# Altium footprint library Connector.PcbLib: 18 footprints (part 2 of 2)
Each footprint in its own frame and in the unit in brackets; x right, y up, seen from the top. Pads: shape width x height; smd on the part's side, far side on the other; paste and mask are expansions set on the pad; w line width, h text height; cw(c..) or ccw(c..) is an arc to the next point about the centre after c.
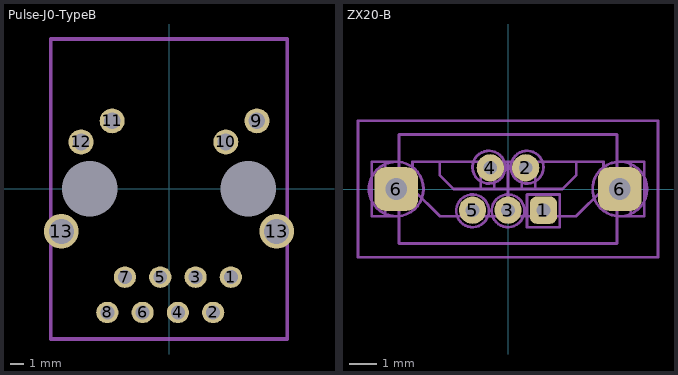
[diagram p1: the footprints below, top view; thin cyan lines are the x and y axes]

## Pulse-J0-TypeB [mm]
pads (16):
  oval 1.6x1.524 hole 1: 1(4.45,-6.35) 2(3.18,-8.89) 3(1.91,-6.35) 4(0.64,-8.89) 5(-0.63,-6.35) 6(-1.9,-8.89) 7(-3.17,-6.35) 8(-4.44,-8.89)
  round 1.8 hole 1.2: 9(6.325,4.9) 10(4.09,3.38) 11(-4.09,4.9) 12(-6.325,3.38)
  round 2.5 hole 1.8: 13(-7.75,-3.05) 13(7.75,-3.05)
  round 0 hole 4 unplated: 14(-5.71,0) 14(5.71,0)
Mechanical 13:
  lines w0.254: -8.51,-10.8 -8.51,10.79 8.51,10.79 8.51,-10.8 -8.51,-10.8
3D body: height 13.57, standoff -3.94, extent -8.271,-10.397 8.329,10.95

## ZX20-B [mm] "Micro-USB B Plug Vertical PCB"
pads (7):
  rrect50% 1x1 hole 0.5: 1(1.3,-0.775)
  round 1 hole 0.5: 2(0.65,0.775) 3(0,-0.775) 4(-0.65,0.775) 5(-1.3,-0.775)
  rrect50% 1.6x1.6 hole 0.8: 6(-4.1,0) 6(4.1,0)
Mechanical 4:
  lines w0.1: -4,-1 -5,-1 -5,1 -4,1 ; 4,-1 5,-1 5,0 5,1 4,1 ; -4,-2 4,-2 4,2 -4,2 -4,-2 ; -3.5,0 -3.5,1 3,1 3.5,1 3.5,0 2.5,-1 -2.5,-1 -3.5,0
Mechanical 13:
  lines w0.1: -2.5,1 -2.5,0.5 -2,0 2,0 2.5,0.5 2.5,1 ; -1,0 -1,0.5 ; -0.5,0 -0.5,0.5 ; 0,0 0,0.5 ; 0.501,0.001 0.501,0.5 ; 1,0 1,0.5 ; -4.5,-1 -4.5,1 -4,1 -4,2 4,2 4,1 4.5,1 4.5,-1 4,-1 4,-2 -4,-2 -4,-1 -4.5,-1 ; -3.5,0 -3.5,1 3.5,1 3.5,0 2.5,-1 -2.5,-1 -3.5,0
Mechanical 14:
  circle w0.1: c-4.1,0 r1
  circle w0.1: c4.1,0 r1
  circle w0.1: c-0.7,0.8 r0.6
  circle w0.1: c0.7,0.8 r0.6
  circle w0.1: c0,-0.8 r0.6
  circle w0.1: c-1.3,-0.8 r0.6
  lines w0.1: 0.7,-1.4 0.7,-0.2 1.9,-0.2 1.9,-1.4 0.7,-1.4
Mechanical 15:
  lines w0.1: -1,0 1,0 ; 0,-1 0,1 ; -5.5,-2.5 -5.5,2.5 5.5,2.5 5.5,-2.5 -5.5,-2.5
3D body: height 0, standoff -1.1, extent 4,-0.4 4.2,0.3
3D body: height 0, standoff -1.1, extent -4.2,-0.4 -4,0.3
3D body: height 0, standoff -1, extent -1.449,-0.95 -1.051,-0.551
3D body: height -0.4, standoff -1.4, extent -0.149,-0.95 0.249,-0.551
3D body: height 0, standoff -1, extent 1.151,-0.95 1.549,-0.551
3D body: height 0, standoff -1, extent -0.799,0.6 -0.401,0.999
3D body: height 0, standoff -1, extent 0.501,0.6 0.899,0.999
3D body: height 5.5, standoff 0, extent -4,-2 4,2
3D body: height 4.5, standoff 0, extent -4.2,-0.4 4.2,2.2
3D body: height 12.5, standoff 5.5, extent -3.5,-1 3.5,1